# EAGLE library part INA333AIDRGT (library INA333)
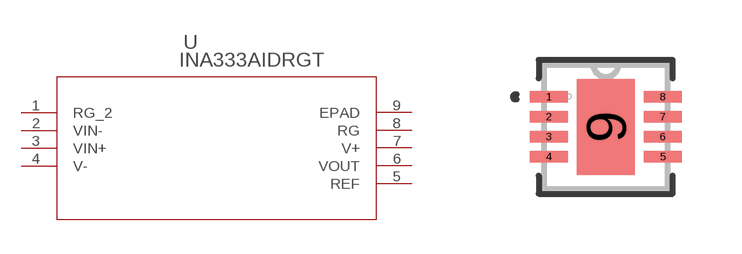
[diagram p0: symbol with the pads of DRG8_2P4X1P45; footprint DRG8_2P4X1P45]

Designator prefix U

## INA333AIDRGT (MANUFACTURER_PART_NUMBER: INA333AIDRGT; VENDOR: Texas Instruments)  [DRG8_2P4X1P45]
1  RG_2  pas
2  VIN-  in
3  VIN+  in
4  V-  pwr
5  REF  pas
6  VOUT  out
7  V+  pwr
8  RG  pas
9  EPAD  pas

## Footprint DRG8_2P4X1P45 (pad centres in mm)
smd 0.95 x 0.28: 1 -1.425,0.75; 2 -1.425,0.25; 3 -1.425,-0.25; 4 -1.425,-0.75; 5 1.425,-0.75; 6 1.425,-0.25; 7 1.425,0.25; 8 1.425,0.75
smd 1.45 x 2.4: 9 0,0